# Altium footprint library PCI_5_short.PcbLib: 1 footprints
Each footprint in its own frame and in the unit in brackets; x right, y up, seen from the top. Pads: shape width x height; smd on the part's side, far side on the other; paste and mask are expansions set on the pad; w line width, h text height; cw(c..) or ccw(c..) is an arc to the next point about the centre after c.
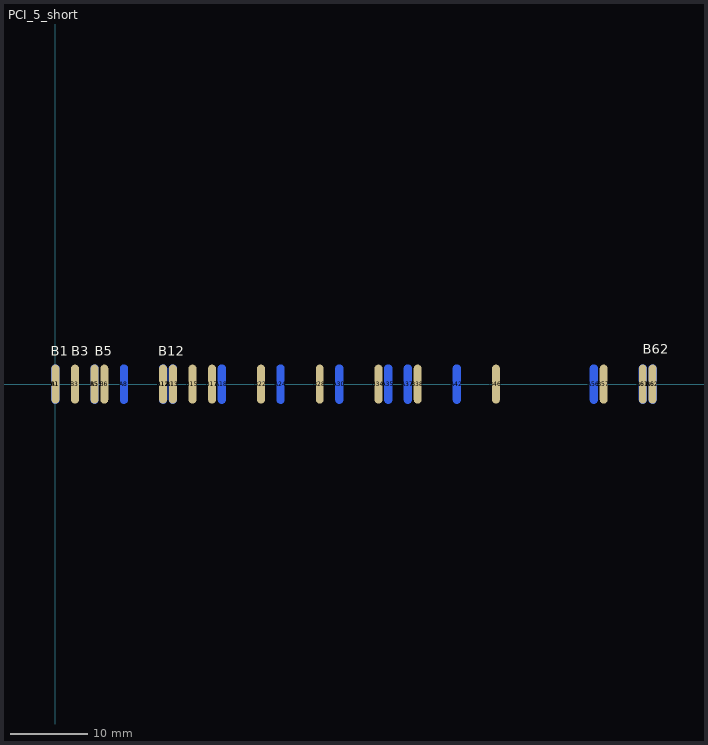
[diagram p0: the footprint, top view; thin cyan lines are the x and y axes]

## PCI_5_short [mil]
pads (30):
  oval 40x200 smd far side: A1(0,0) A5(200,0) A8(350,0) A12(550,0) A13(600,0) A18(850,0) A24(1150,0) A30(1450,0) A35(1700,0) A37(1800,0) A42(2050,0) A56(2750,0) A61(3000,0) A62(3050,0)
  oval 40x200 smd: B1(0,0) B3(100,0) B5(200,0) B6(250,0) B12(550,0) B13(600,0) B15(700,0) B17(800,0) B22(1050,0) B28(1350,0) B34(1650,0) B38(1850,0) B46(2250,0) B57(2800,0) B61(3000,0) B62(3050,0)
Top Overlay:
  text "B62" at 3000,155 h48
  text "B3" at 80,145 h48
  text "B1" at -25,145 h48
  text "B5" at 200,145 h48
  text "B12" at 525,145 h48